# EAGLE library part LTC4365 (library ruark2)
Overvoltage, Undervoltage and Reverse Supply Protection Controller Charge Pump, -40 to +60V
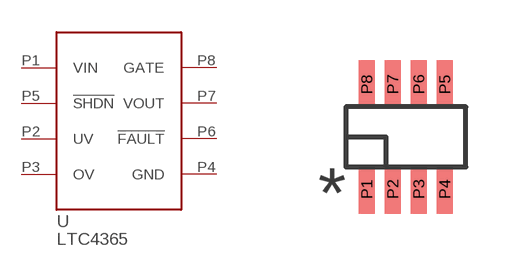
[diagram p91: symbol with the pads of TSOT-23-8; footprint TSOT-23-8]

Designator prefix U

## LTC4365  [TSOT-23-8]
P1  VIN
P2  UV
P3  OV
P4  GND
P5  !SHDN
P6  !FAULT
P7  VOUT
P8  GATE

## Footprint TSOT-23-8 (pad centres in mm)
smd 0.4 x 1.22: P1 -0.975,-1.31; P2 -0.325,-1.31; P3 0.325,-1.31; P4 0.975,-1.31; P5 0.975,1.31; P6 0.325,1.31; P7 -0.325,1.31; P8 -0.975,1.31